# Altium schematic symbol library chiller.SchLib: 1 symbol
Pins are listed as number, name and electrical type; pins without a type are passive.

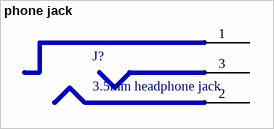
[diagram p0: symbol phone jack]

## phone jack
designator J?, comment 3.5mm headphone jack
footprint phone jack
pins: 1 Ring, 2 Ring, 3 Tip